# Altium integrated library XL6009.IntLib: 1 symbol
Pins are listed as number, name and electrical type; pins without a type are passive.

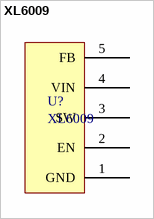
[diagram p0: symbol XL6009]

## XL6009
designator U?
400KHz 60V 4A Switching Current Boost / Buck-Boost / Inverting DC/DC Converter
footprint XL6009
pins: 1 GND, 2 EN, 3 SW, 4 VIN, 5 FB